# Altium footprint library mbed-HDK.PCBLIB: 59 footprints (part 4 of 4)
Each footprint in its own frame and in the unit in brackets; x right, y up, seen from the top. Pads: shape width x height; smd on the part's side, far side on the other; paste and mask are expansions set on the pad; w line width, h text height; cw(c..) or ccw(c..) is an arc to the next point about the centre after c.
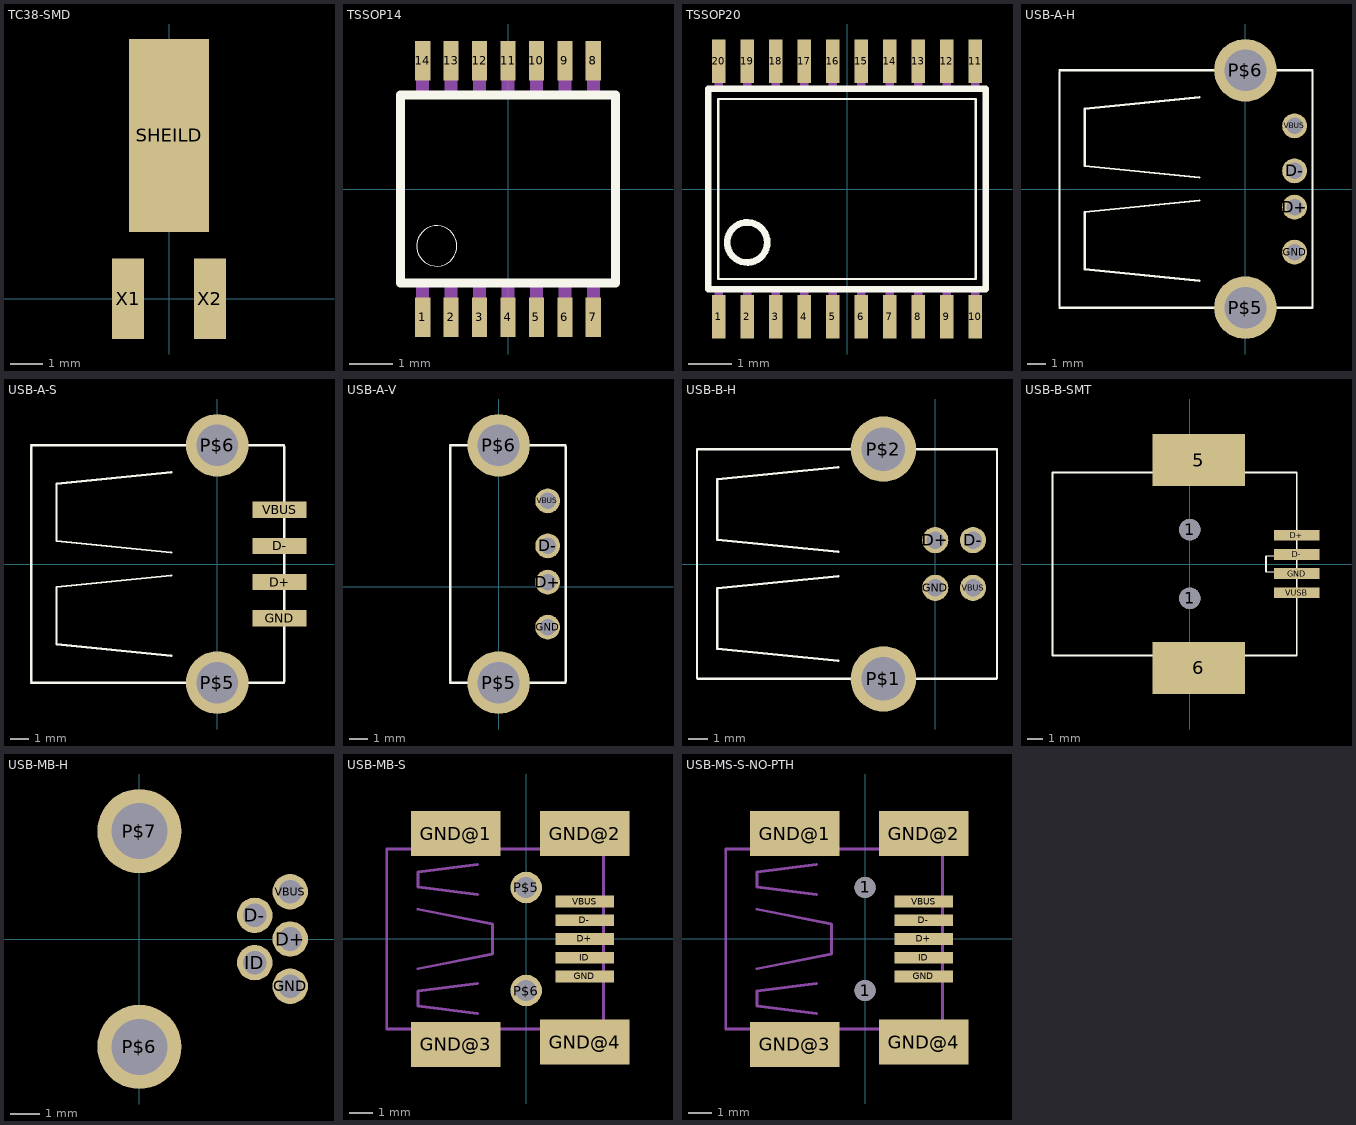
[diagram p3: the footprints below, top view; thin cyan lines are the x and y axes]

## TC38-SMD [mm]
pads (3):
  rect 2.5x6 smd: SHEILD(0,5.08)
  rect 1x2.5 smd: X1(-1.27,0) X2(1.27,0)

## TSSOP14 [mm]
pads (14):
  rect 0.35x0.9 smd: 1(-1.95,-2.925) 2(-1.3,-2.925) 3(-0.65,-2.925) 4(0,-2.925) 5(0.65,-2.925) 6(1.3,-2.925) 7(1.95,-2.925) 8(1.95,2.925) 9(1.3,2.925) 10(0.65,2.925) 11(0,2.925) 12(-0.65,2.925) 13(-1.3,2.925) 14(-1.95,2.925)
Top Overlay:
  circle w0: c-1.625,-1.3 r0.459
  lines w0.203: -2.45,-2.15 2.45,-2.15 2.45,2.15 -2.45,2.15 -2.45,-2.15
Top Solder:
  rectangle: -2.175,-3.425 -1.725,-2.425
  rectangle: -1.525,-3.425 -1.075,-2.425
  rectangle: -0.875,-3.425 -0.425,-2.425
  rectangle: -0.225,-3.425 0.225,-2.425
  rectangle: 0.425,-3.425 0.875,-2.425
  rectangle: 1.075,-3.425 1.525,-2.425
  rectangle: 1.725,-3.425 2.175,-2.425
  region: 2.175,3.425 1.725,3.425 1.725,2.425 2.175,2.425
  region: 1.525,3.425 1.075,3.425 1.075,2.425 1.525,2.425
  region: 0.875,3.425 0.425,3.425 0.425,2.425 0.875,2.425
  region: 0.225,3.425 -0.225,3.425 -0.225,2.425 0.225,2.425
  region: -0.425,3.425 -0.875,3.425 -0.875,2.425 -0.425,2.425
  region: -1.075,3.425 -1.525,3.425 -1.525,2.425 -1.075,2.425
  region: -1.725,3.425 -2.175,3.425 -2.175,2.425 -1.725,2.425
Mechanical 16:
  rectangle: -2.1,-3.3 -1.8,-2.225
  rectangle: -1.45,-3.3 -1.15,-2.225
  rectangle: -0.8,-3.3 -0.5,-2.225
  rectangle: -0.15,-3.3 0.15,-2.225
  rectangle: 0.5,-3.3 0.8,-2.225
  rectangle: 1.15,-3.3 1.45,-2.225
  rectangle: 1.8,-3.3 2.1,-2.225
  region: 2.1,3.3 1.8,3.3 1.8,2.225 2.1,2.225
  region: 1.45,3.3 1.15,3.3 1.15,2.225 1.45,2.225
  region: 0.8,3.3 0.5,3.3 0.5,2.225 0.8,2.225
  region: 0.15,3.3 -0.15,3.3 -0.15,2.225 0.15,2.225
  region: -0.5,3.3 -0.8,3.3 -0.8,2.225 -0.5,2.225
  region: -1.15,3.3 -1.45,3.3 -1.45,2.225 -1.15,2.225
  region: -1.8,3.3 -2.1,3.3 -2.1,2.225 -1.8,2.225

## TSSOP20 [mil]
pads (20):
  rect 12x39 smd: 1(-115.16,-114.87) 2(-89.57,-114.87) 3(-63.98,-114.87) 4(-38.39,-114.87) 5(-12.8,-114.87) 6(12.8,-114.87) 7(38.39,-114.87) 8(63.98,-114.87) 9(89.57,-114.87) 10(115.16,-114.87) 11(115.16,114.87) 12(89.57,114.87) 13(63.98,114.87) 14(38.39,114.87) 15(12.8,114.87) 16(-12.8,114.87) 17(-38.39,114.87) 18(-63.98,114.87) 19(-89.57,114.87) 20(-115.16,114.87)
Top Overlay:
  circle w6: c-89.59,-48 r18
  lines w2: -115.59,-80.87 115.59,-80.87 115.59,80.87 -115.59,80.87 -115.59,-80.87
  lines w6: -124.59,-89.87 124.59,-89.87 124.59,89.87 -124.59,89.87 -124.59,-89.87
Mechanical 16:
  rectangle: -119.16,-122.87 -111.16,-89.87
  rectangle: -93.57,-122.87 -85.57,-89.87
  rectangle: -67.98,-122.87 -59.98,-89.87
  rectangle: -42.39,-122.87 -34.39,-89.87
  rectangle: -16.8,-122.87 -8.8,-89.87
  rectangle: 8.8,-122.87 16.8,-89.87
  rectangle: 34.39,-122.87 42.39,-89.87
  rectangle: 59.98,-122.87 67.98,-89.87
  rectangle: 85.57,-122.87 93.57,-89.87
  rectangle: 111.16,-122.87 119.16,-89.87
  rectangle: 111.16,89.87 119.16,122.87
  rectangle: 85.57,89.87 93.57,122.87
  rectangle: 59.98,89.87 67.98,122.87
  rectangle: 34.39,89.87 42.39,122.87
  rectangle: 8.8,89.87 16.8,122.87
  rectangle: -16.8,89.87 -8.8,122.87
  rectangle: -42.39,89.87 -34.39,122.87
  rectangle: -67.98,89.87 -59.98,122.87
  rectangle: -93.57,89.87 -85.57,122.87
  rectangle: -119.16,89.87 -111.16,122.87

## USB-A-H [mil]
pads (6):
  round 54 hole 36: D+(107,-39.5) D-(107,39.5) GND(107,-137.5) VBUS(107,137.5)
  round 136.5 hole 91: P$5(0,-258.5) P$6(0,258.5)
Top Overlay:
  lines w5: -405,-258.5 145.5,-258.5 ; -405,-255 -405,255 ; -405,258.5 145.5,258.5 ; -100,-200 -350,-175 -350,-50 -100,-25 ; -100,25 -350,50 -350,175 -100,200 ; 146,-256 146,256

## USB-A-S [mm]
pads (6):
  rect 3x0.9 smd: D+(3.45,-1) D-(3.45,1) GND(3.45,-3) VBUS(3.45,3)
  round 3.467 hole 2.311: P$5(0,-6.566) P$6(0,6.566)
Top Overlay:
  lines w0.127: -10.287,-6.566 3.696,-6.566 ; -10.287,-6.477 -10.287,6.477 ; -10.287,6.566 3.696,6.566 ; -2.54,-5.08 -8.89,-4.445 -8.89,-1.27 -2.54,-0.635 ; -2.54,0.635 -8.89,1.27 -8.89,4.445 -2.54,5.08 ; 3.708,-6.502 3.708,6.502

## USB-A-V [mil]
pads (6):
  round 54 hole 36: D+(107,10.5) D-(107,89.5) GND(107,-87.5) VBUS(107,187.5)
  round 136.5 hole 91: P$5(0,-208.5) P$6(0,308.5)
Top Overlay:
  lines w5: -105,-208.5 145.5,-208.5 ; -105,-205 -105,305 ; -105,308.5 145.5,308.5 ; 146,-206 146,306

## USB-B-H [mil]
pads (6):
  round 54 hole 36: D+(0,49.21) D-(78,49.21) GND(0,-49.21) VBUS(78,-49.21)
  round 135 hole 90: P$1(-107,-237) P$2(-107,237)
Top Overlay:
  lines w5: -491.57,-236.21 -491.57,236.79 ; -490.79,237 127.21,237 ; -489.79,-237 126.21,-237 ; -200,-200 -450,-175 -450,-50 -200,-25 ; -200,25 -450,50 -450,175 -200,200 ; 127.43,-236.21 127.43,236.79

## USB-B-SMT [mm]
pads (8):
  round 1.4 hole 1.4: 1(0,-2.25) 1(0,2.25)
  rect 6.04x3.4 smd: 5(0.58,6.8) 6(0.58,-6.8)
  rect 3x0.7 smd: D+(7,1.875) D-(7,0.625) GND(7,-0.625) VUSB(7,-1.875)
Top Overlay:
  lines w0.05: 5,-0.5 6,-0.5 ; 5,0.5 6,0.5
  lines w0.127: 5,-0.5 5,0.5 ; -1,-6 -9,-6 -9,6 -1,6 ; -1,-6 2.4,-6 ; -1,-6 -1,-7.3 -0.8,-7.5 -0.5,-7.5 0,-7 1.4,-7 1.9,-7.5 2.2,-7.5 2.4,-7.3 2.4,-6 ; -1,6 2.4,6 ; -1,6 -1,7.3 -0.8,7.5 -0.5,7.5 0,7 1.4,7 1.9,7.5 2.2,7.5 2.4,7.3 2.4,6 ; 2.4,-6 7,-6 7,6 2.4,6
Bottom Overlay:
  lines w0.127: -0.4,7.4 -0.3,7.5 ; 2.9,-7.5 3,-7.4

## USB-MB-H [mil]
pads (7):
  round 47.25 hole 31.5: D+(200.79,0) D-(153.54,31.5) GND(200.79,-62.99) ID(153.54,-31.5) VBUS(200.79,62.99)
  round 112.2 hole 74.8: P$6(0,-143.7) P$7(0,143.7)
Bottom Overlay:
  lines w5: -127.95,-49.21 68.9,-29.53 68.9,29.53 -127.95,49.21 ; 29.53,59.06 -127.95,78.74 -127.95,118.11 29.53,137.8 ; 49.21,-137.8 -127.95,-118.11 -127.95,-78.74 49.21,-59.06 ; -147.64,-153.54 -147.64,153.54 206.69,153.54 206.69,-153.54 -147.64,-153.54
Via Holes:
  rectangle: 127.95,118.11 226.38,173.23
  rectangle: 127.95,-173.23 226.38,-118.11
  rectangle: -147.64,-122.05 -56.1,122.05
  rectangle: -56.1,-91.54 -25.59,91.54

## USB-MB-S [mil]
pads (11):
  rect 98.43x19.69 smd: D+(98.43,0) D-(98.43,31.5) GND(98.43,-62.99) ID(98.43,-31.5) VBUS(98.43,62.99)
  rect 150x76 smd: GND@1(-118.11,177.17) GND@2(98.43,177.17) GND@3(-118.11,-177.17) GND@4(98.43,-173.23)
  round 53.15 hole 35.43: P$5(0,86.61) P$6(0,-86.61)
Mechanical 16:
  lines w5: -181.69,-50 -56.69,-25 -56.69,25 -181.69,50 ; -81.69,-125 -181.69,-112.5 -181.69,-87.5 -81.69,-75 ; -81.69,75 -181.69,87.5 -181.69,112.5 -81.69,125 ; -234.25,-151.57 -234.25,151.57 129.92,151.57 129.92,-151.57 -234.25,-151.57

## USB-MS-S-NO-PTH [mil]
pads (11):
  round 35.43 hole 35.43: 1(0,-86.61) 1(0,86.61)
  rect 98.43x19.69 smd: D+(98.43,0) D-(98.43,31.5) GND(98.43,-62.99) ID(98.43,-31.5) VBUS(98.43,62.99)
  rect 150x76 smd: GND@1(-118.11,177.17) GND@2(98.43,177.17) GND@3(-118.11,-177.17) GND@4(98.43,-173.23)
Mechanical 16:
  lines w5: -181.69,-50 -56.69,-25 -56.69,25 -181.69,50 ; -81.69,-125 -181.69,-112.5 -181.69,-87.5 -81.69,-75 ; -81.69,75 -181.69,87.5 -181.69,112.5 -81.69,125 ; -234.25,-151.57 -234.25,151.57 129.92,151.57 129.92,-151.57 -234.25,-151.57